# EAGLE library part TTP223-BA6 (library Livolo_EU_2Gang_1way)
TTP223 touch sensor
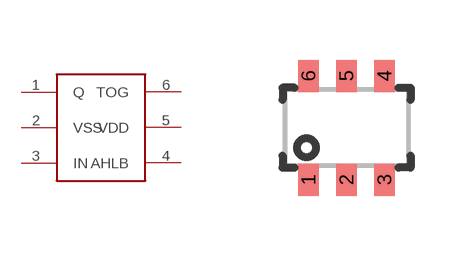
[diagram p4: symbol with the pads of SOT-23-6; footprint SOT-23-6]

Designator prefix -

## TTP223-BA6  [SOT-23-6]
1  Q
2  VSS
3  IN
4  AHLB
5  VDD
6  TOG

## Footprint SOT-23-6 (pad centres in mm)
smd 0.51 x 0.8: 1 0.955,-0.03; 2 1.905,-0.03; 3 2.855,-0.03; 4 2.855,2.57; 5 1.905,2.57; 6 0.955,2.57